# EAGLE library part 615012149421 (library WR-MJ)
WR-MJ Cat 3 Modular Jacks – THT Characteristics Shieldingless and Shielded with EMI-Spring option Optional LEDs in various sequences Vertical and Horizontal orientation Stacked and assembled configurations Tray Packaging Properties PoE++ Compatible up to 100W (IEEE 802.3bt) UL and cULus-Certified UL94-V0 insulator material Ethernet Category 3 – Category 5 under conditions Applications Networks Internet of Things mart Buildings <https://www.we-online.com/components/media/o863419v209%20multi-WR-MJTH-615002138421.jpg> Details see: www.we-online.com/en/components/products/WR_MJ_MODULAR_JACKS_THT <www.we-online.com/catalog/WR_MJ_MODULAR_JACKS_THT/?utm_source=eagle_model&utm_medium=description_link&utm_campaign=eisos_eagle> Updated by Yingchun Shan 2020-01-06 2020(C) Würth Elektronik
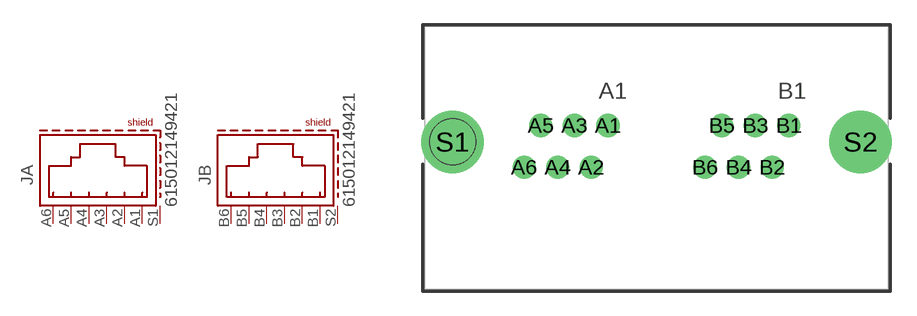
[diagram p37: symbol with the pads of 615012149421; footprint 615012149421]

Designator prefix J; gates A=6P6C_S B=6P6C_S

## 615012149421 (DATASHEET-URL: https://www.we-online.com/redexpert/spec/615012149421?ae; EMI: No; LED: /; MOUNT: THT; PART-NUMBER: 615012149421; SIZE: Horizontal; TAB: Up; VALUE: 615012149421; XPXC: 6P6C)  [615012149421]
A1  A:1  pas
A2  A:2  pas
A3  A:3  pas
A4  A:4  pas
A5  A:5  pas
A6  A:6  pas
B1  B:1  pas
B2  B:2  pas
B3  B:3  pas
B4  B:4  pas
B5  B:5  pas
B6  B:6  pas
S1  A:SHIELD  pas
S2  B:SHIELD  pas

## Footprint 615012149421 (pad centres in mm)
WR-MJ Modular Jack Horizontal Plastic 6P6C Assembly Tab Up
drill 0.9: A1 -2.95,1.97; A2 -3.97,-0.57; A3 -4.99,1.97; A4 -6.01,-0.57; A5 -7.03,1.97; A6 -8.05,-0.57; B1 8.05,1.97; B2 7.03,-0.57; B3 6.01,1.97; B4 4.99,-0.57; B5 3.97,1.97; B6 2.95,-0.57
drill 2.8: S1 -12.4,0.97; S2 12.4,0.97
hole 2.8 at -12.4,0.97